# Altium footprint library ARES_R30_Power.PcbLib: 67 footprints (part 5 of 5)
Each footprint in its own frame and in the unit in brackets; x right, y up, seen from the top. Pads: shape width x height; smd on the part's side, far side on the other; paste and mask are expansions set on the pad; w line width, h text height; cw(c..) or ccw(c..) is an arc to the next point about the centre after c.
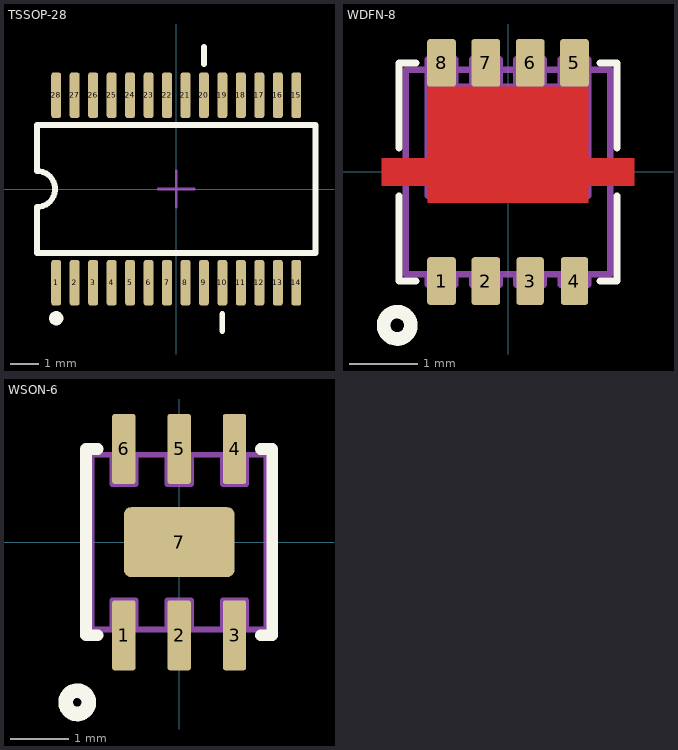
[diagram p4: the footprints below, top view; thin cyan lines are the x and y axes]

## TSSOP-28 [mm]
height 1.2
pads (28):
  rrect50% 0.35x1.6 smd: 1(-4.225,-3.3) 2(-3.575,-3.3) 3(-2.925,-3.3) 4(-2.275,-3.3) 5(-1.625,-3.3) 6(-0.975,-3.3) 7(-0.325,-3.3) 8(0.325,-3.3) 9(0.975,-3.3) 10(1.625,-3.3) 11(2.275,-3.3) 12(2.925,-3.3) 13(3.575,-3.3) 14(4.225,-3.3) 15(4.225,3.3) 16(3.575,3.3) 17(2.925,3.3) 18(2.275,3.3) 19(1.625,3.3) 20(0.975,3.3) 21(0.325,3.3) 22(-0.325,3.3) 23(-0.975,3.3) 24(-1.625,3.3) 25(-2.275,3.3) 26(-2.925,3.3) 27(-3.575,3.3) 28(-4.225,3.3)
Top Overlay:
  circle w0.25: c-4.225,-4.55 r0.125
  lines w0.2: 0.975,4.4 0.975,5 ; 1.623,-5 1.623,-4.4 ; -4.9,-2.25 -4.9,-0.635 ccw(c-4.9,0) -4.9,0.635 -4.9,2.25 4.9,2.25 4.9,-2.25 -4.9,-2.25
Mechanical 15:
  lines w0.1: -0.635,0 0.635,0 ; 0,-0.635 0,0.635
3D body "SW3dPS-TSSOP-28_P065.STEP": height 0.97, standoff -0.02, extent -4.85,-3.2 4.85,3.2

## WDFN-8 [mm]
pads (8):
  rrect20% 0.42x0.7 smd: 1(-0.975,-1.6) 2(-0.325,-1.6) 5(0.975,1.6) 6(0.325,1.6) 7(-0.325,1.6) 8(-0.975,1.6)
  rrect20% 0.4x0.7 smd: 3(0.325,-1.6) 4(0.975,-1.6)
Top Layer:
  region: -1.175,0.2 -1.85,0.2 -1.85,-0.2 -1.175,-0.2 -1.175,-0.45 1.175,-0.45 1.175,-0.2 1.85,-0.2 1.85,0.2 1.175,0.2 1.175,1.25 -1.175,1.25
Top Overlay:
  circle w0.2: c-1.625,-2.25 r0.2
  lines w0.1: -1.6,-0.35 -1.6,-1.6 -1.35,-1.6 ; -1.6,0.35 -1.6,1.6 -1.35,1.6 ; 1.35,-1.6 1.6,-1.6 1.6,-0.35 ; 1.35,1.6 1.6,1.6 1.6,0.35
Mechanical 8:
  lines w0.1: -1.175,-1.5 -1.175,-1.65 -0.775,-1.65 -0.775,-1.5 ; -0.775,1.25 -0.775,1.65 -1.175,1.65 -1.175,1.25 ; -0.525,-1.5 -0.525,-1.65 -0.125,-1.65 -0.125,-1.5 ; -0.525,1.25 -0.525,1.65 -0.125,1.65 -0.125,1.25 ; 0,-0.35 0,1.25 ; 0.125,-1.5 0.125,-1.65 0.525,-1.65 0.525,-1.5 ; 0.125,1.25 0.125,1.65 0.525,1.65 0.525,1.25 ; 0.775,-1.5 0.775,-1.65 1.175,-1.65 1.175,-1.5 ; 0.775,1.25 0.775,1.65 1.175,1.65 1.175,1.25 ; -1.175,1.25 1.175,1.25 ; -1.175,1.25 -1.175,-0.35 1.175,-0.35 1.175,1.25 ; -1.65,-0.15 -1.65,0.15 1.65,0.15 1.65,-0.15 -1.65,-0.15 ; -1.5,-1.5 -1.5,1.5 1.5,1.5 1.5,-1.5 -1.5,-1.5

## WSON-6 [mm]
height 25
pads (7):
  rrect20% 0.4x1.2 smd: 1(-0.95,-1.6) 2(0,-1.6) 3(0.95,-1.6) 4(0.95,1.6) 5(0,1.6) 6(-0.95,1.6)
  rrect20% 1.9x1.2 smd: 7(0,0)
Top Overlay:
  circle w0.25: c-1.75,-2.75 r0.2
  lines w0.2: -1.4,-1.6 -1.6,-1.6 -1.6,1.6 -1.4,1.6 ; 1.4,-1.6 1.6,-1.6 1.6,1.6 1.4,1.6
Mechanical 8:
  lines w0.1: -1.15,-1.5 -1.15,-1 -0.75,-1 -0.75,-1.5 ; -1.15,1.5 -1.15,1 -0.75,1 -0.75,1.5 ; -0.2,-1.5 -0.2,-1 0.2,-1 0.2,-1.5 ; -0.2,1.5 -0.2,1 0.2,1 0.2,1.5 ; 0.75,-1.5 0.75,-1 1.15,-1 1.15,-1.5 ; 0.75,1.5 0.75,1 1.15,1 1.15,1.5 ; -1.5,-1.5 -1.5,1.5 1.5,1.5 1.5,-1.5 -1.5,-1.5
3D body "User Library-WSON-6.step": height 0.75, standoff 0, extent -1.5,-1.51 1.5,1.51